# EAGLE library part 615008150021 (library USB_c_conn)
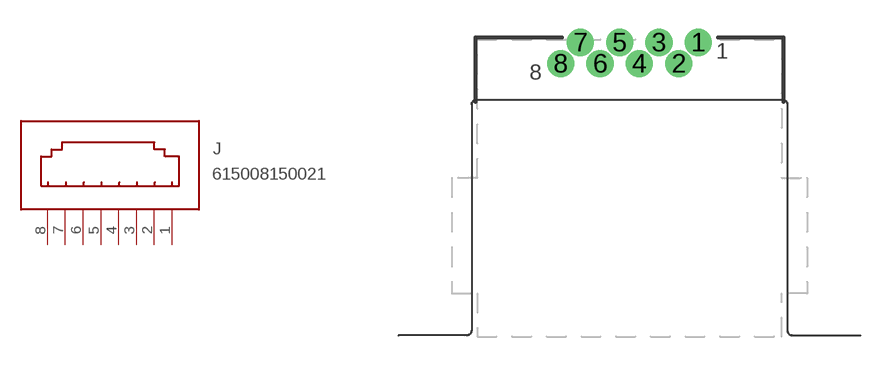
[diagram p188: symbol with the pads of 615008150021; footprint 615008150021]

Designator prefix J

## 615008150021  [615008150021]
1  1  pas
2  2  pas
3  3  pas
4  4  pas
5  5  pas
6  6  pas
7  7  pas
8  8  pas

## Footprint 615008150021 (pad centres in mm)
drill 0.9: 1 3.57,0.55; 2 2.55,-0.55; 3 1.53,0.55; 4 0.51,-0.55; 5 -0.51,0.55; 6 -1.53,-0.55; 7 -2.55,0.55; 8 -3.57,-0.55